# Altium schematic symbol library Schlib.SchLib: 1 symbol
Pins are listed as number, name and electrical type; pins without a type are passive.

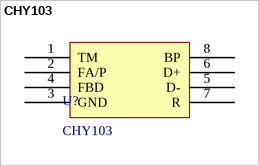
[diagram p0: symbol CHY103]

## CHY103
designator U?
pins: 1 TM, 2 FA/P, 3 GND, 4 FBD, 5 D-, 6 D+, 7 R, 8 BP